# Altium footprint library 研发中心PCB库文件.PcbLib: 333 footprints (part 3 of 21)
Each footprint in its own frame and in the unit in brackets; x right, y up, seen from the top. Pads: shape width x height; smd on the part's side, far side on the other; paste and mask are expansions set on the pad; w line width, h text height; cw(c..) or ccw(c..) is an arc to the next point about the centre after c.
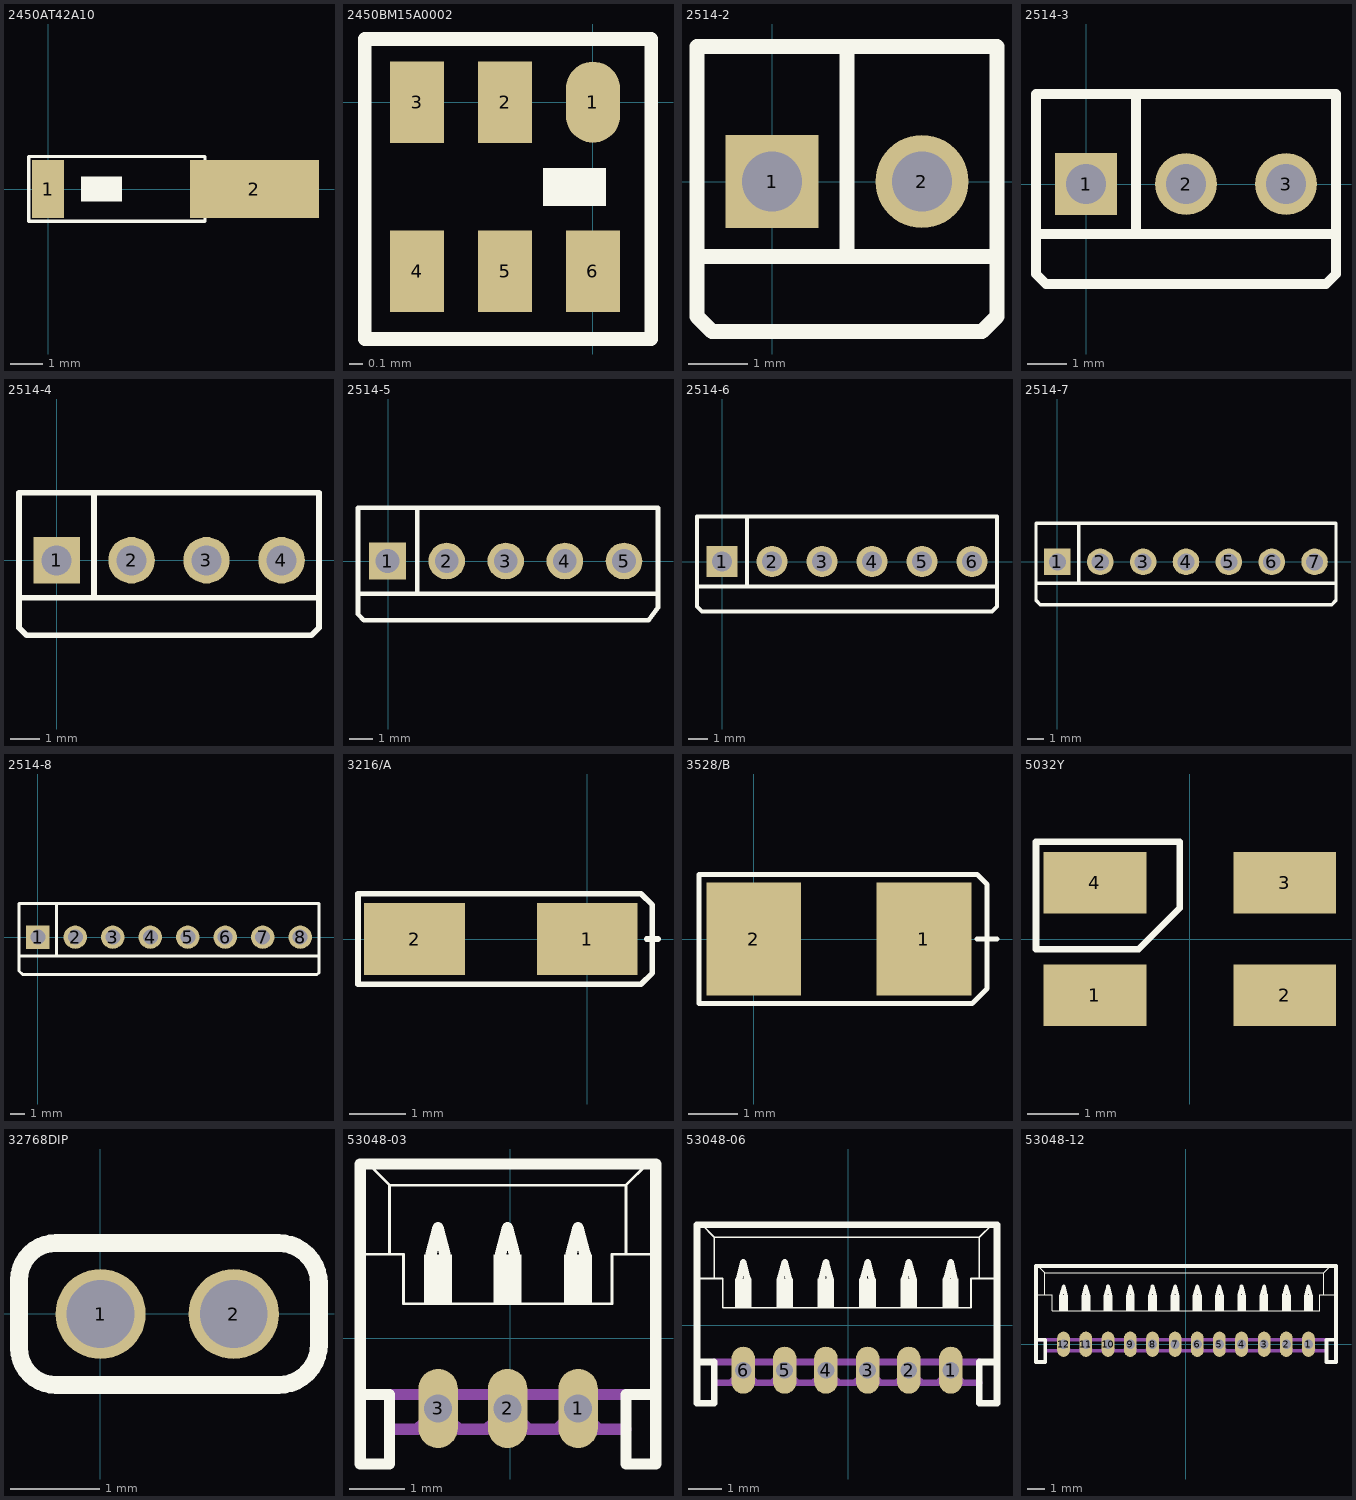
[diagram p2: the footprints below, top view; thin cyan lines are the x and y axes]

## 2450AT42A10 [mm]
pads (2):
  rect 1x1.8 smd: 1(0,0)
  rect 4x1.8 smd: 2(6.4,0)
Top Overlay:
  rectangle: 1.016,-0.381 2.286,0.381
  lines w0.102: -0.602,-1.001 4.869,-1.001 4.869,1.008 -0.602,1.008 -0.602,-1.001

## 2450BM15A0002 [mm]
pads (6):
  oval 0.4x0.6 smd: 1(0,0)
  rect 0.4x0.6 smd: 2(-0.65,0) 3(-1.3,0) 4(-1.3,-1.25) 5(-0.65,-1.25) 6(0,-1.25)
Top Overlay:
  rectangle: -0.368,-0.767 0.098,-0.485
  lines w0.102: -1.686,-1.75 0.43,-1.75 0.43,0.467 -1.686,0.467 -1.686,-1.75

## 2514-2 [mil]
pads (2):
  rect 62x62 hole 40: 1(0,0)
  round 62 hole 40: 2(100,0)
Top Overlay:
  lines w10: 50,-50 50,90 ; -50,-50 -50,90 150,90 150,50 ; -50,-50 -50,-90 -40,-100 140,-100 150,-90 150,-50 ; -50,-50 150,-50 ; -50,-50 150,-50 ; 150,-50 150,50 ; 150,-50 150,50 ; 150,-50 150,50

## 2514-3 [mil]
pads (3):
  rect 62x62 hole 40: 1(0,0)
  round 62 hole 40: 2(100,0) 3(200,0)
Top Overlay:
  lines w10: 50,-50 50,90 ; -50,-50 250,-50 ; -50,-50 -50,90 250,90 250,-50 ; -50,-50 -50,-90 -40,-100 240,-100 250,-90 250,-50

## 2514-4 [mil]
pads (4):
  rect 62x62 hole 40: 1(0,0)
  round 62 hole 40: 2(100,0) 3(200,0) 4(300,0)
Top Overlay:
  lines w7.87: -50,-50 350,-50 ; 50,-50 50,90 ; -50,-90 -40,-100 340,-100 350,-90 350,90 -50,90 -50,-90

## 2514-5 [mil]
pads (5):
  rect 62x62 hole 40: 1(-0.79,0)
  round 62 hole 40: 2(99.21,0) 3(199.21,0) 4(299.21,0) 5(399.21,0)
Top Overlay:
  lines w7.87: 49.21,-50 49.21,90 ; 446.24,-55.12 -50.79,-55.12 456.69,-55 ; 456.69,-78.74 456.69,90 ; 456.69,-78.74 456.69,90 ; 456.69,-78.74 456.69,90 ; 456.69,-78.74 440.94,-100 -40.79,-100 -50.79,-90 -50.79,90 456.69,90

## 2514-6 [mil]
pads (6):
  rect 62x62 hole 40: 1(0,0)
  round 62 hole 40: 2(100,0) 3(200,0) 4(300,0) 5(400,0) 6(500,0)
Top Overlay:
  lines w7.87: -50,-50 550,-50 ; 50,-50 50,90 ; -50,-90 -40,-100 540,-100 550,-90 550,90 -50,90 -50,-90

## 2514-7 [mil]
pads (7):
  rect 62x62 hole 40: 1(0,0)
  round 62 hole 40: 2(100,0) 3(200,0) 4(300,0) 5(400,0) 6(500,0) 7(600,0)
Top Overlay:
  lines w7.87: -50,-50 650,-50 ; 50,-50 50,90 ; -50,-90 -50,90 650,90 650,-90 640,-100 -40,-100 -50,-90

## 2514-8 [mil]
pads (8):
  rect 62x62 hole 40: 1(0,0)
  round 62 hole 40: 2(100,0) 3(200,0) 4(300,0) 5(400,0) 6(500,0) 7(600,0) 8(700,0)
Top Overlay:
  lines w7.87: -50,-50 750,-50 ; 50,-50 50,90 ; -50,-90 -40,-100 745,-100 750,-95 750,90 -50,90 -50,-90

## 3216/A [mm]
pads (2):
  rect 1.78x1.27 smd: 1(0,0) 2(-3.05,0)
Top Overlay:
  lines w0.1: 1.05,0 1.25,0 ; -4.05,-0.8 0.95,-0.8 1.15,-0.6 1.15,0.6 0.95,0.8 0.75,0.8 -4.05,0.8 -4.05,-0.8

## 3528/B [mil]
pads (2):
  rect 75x90 smd: 1(135,0) 2(0,0)
Top Overlay:
  lines w3.94: 100,51.18 177.17,51.18 185.04,43.31 185.04,-39.37 173.23,-51.18 -43.31,-51.18 -43.31,51.18 47.24,51.18 102.36,51.18 ; 177.17,0 192.91,0

## 5032Y [mm]
pads (4):
  rect 2x1.2 smd: 1(-1.85,-1.1) 2(1.85,-1.1) 3(1.85,1.1) 4(-1.85,1.1)
Top Overlay:
  lines w0.127: -0.2,0.6 -0.2,0.6 ; -0.2,0.6 -1,-0.2 -3,-0.2 -3,1.9 -0.2,1.9 -0.2,0.6

## 32768DIP [mil]
pads (2):
  round 40 hole 30: 1(0.16,-0.14) 2(59.21,-0.14)
Top Overlay:
  lines w7.87: -36,-15.16 ccw(c-19.53,-15.16) -19.53,-31.64 78.9,-31.64 ccw(c78.9,-13.54) 97,-13.54 97,13.25 ccw(c78.9,13.25) 78.9,31.35 -19.53,31.35 ccw(c-19.53,14.88) -36,14.88 -36,-15.16

## 53048-03 [mil]
pads (3):
  oval 28x56 hole 20: 1(48.23,-49.76) 2(-1.77,-49.76) 3(-50.98,-49.76)
Top Overlay:
  rectangle: 38.23,24.45 58.23,59.45
  rectangle: -11.61,24.45 8.23,59.45
  rectangle: -60.83,24.45 -41.14,59.45
  lines w2: -105.12,59.45 -85.43,59.45 ; -100.2,123.45 -85.43,108.45 ; 97.23,123.45 82.23,108.45 ; 102.23,59.45 82.23,59.45 ; -85.43,59.45 -85.43,108.45 ; -85.43,59.45 -75.59,59.45 -75.59,24.45 72.23,24.45 72.23,59.45 82.23,59.45 ; -85.43,108.45 82.23,108.45 ; 82.23,59.45 82.23,108.45
  lines w8: -105.12,-39.92 -85.43,-39.92 -85.43,-89.13 -106.1,-89.13 -106.1,123.45 -100.2,123.45 97.23,123.45 103.23,123.45 103.23,-89.13 82.23,-89.13 82.23,-39.92 102.23,-39.92 ; -55.91,59.45 -50.98,78.45 -46.06,59.45 ; -6.69,59.45 -1.77,78.45 3.23,59.45 ; 43.23,59.45 48.23,78.45 53.23,59.45
Mechanical 16:
  rectangle: 38.23,-59.61 58.23,-39.92
  rectangle: -11.61,-59.61 8.23,-39.92
  rectangle: -60.83,-59.61 -41.14,-39.92
  lines w8: -85.43,-64.53 -65.75,-64.53 -60.83,-59.61 ; -85.43,-39.92 82.23,-39.92 ; -41.14,-59.61 -36.22,-64.53 -16.54,-64.53 -11.61,-59.61 ; 8.23,-59.61 13.23,-64.53 33.23,-64.53 38.23,-59.61 ; 58.23,-59.61 62.23,-64.53 82.23,-64.53

## 53048-06 [mil]
pads (6):
  oval 28x56 hole 20: 1(122.03,-53.7) 2(72.03,-53.7) 3(23.03,-53.7) 4(-26.57,-53.7) 5(-75.79,-53.7) 6(-125,-53.7)
Top Overlay:
  rectangle: -134.84,20.51 -115.16,55.51
  rectangle: -85.63,20.51 -65.94,55.51
  rectangle: -36.42,20.51 -16.73,55.51
  rectangle: 13.03,20.51 33.03,55.51
  rectangle: 62.03,20.51 82.03,55.51
  rectangle: 112.03,20.51 131.03,55.51
  lines w2: -179.13,55.51 -159.45,55.51 ; -174.21,119.51 -159.45,104.51 ; 171.03,119.51 156.03,104.51 ; 176.03,55.51 156.03,55.51 ; -159.45,55.51 -149.61,55.51 -149.61,20.51 146.03,20.51 146.03,55.51 156.03,55.51 ; -159.45,55.51 -159.45,104.51 ; -159.45,104.51 156.03,104.51 ; 156.03,55.51 156.03,104.51
  lines w8: -179.13,-43.86 -159.45,-43.86 -159.45,-93.07 -180.12,-93.07 -180.12,119.51 -174.21,119.51 171.03,119.51 177.03,119.51 177.03,-93.07 156.03,-93.07 156.03,-43.86 176.03,-43.86 ; -129.92,55.51 -125,74.51 -120.08,55.51 ; -80.71,55.51 -75.79,74.51 -70.87,55.51 ; -31.5,55.51 -26.57,74.51 -21.65,55.51 ; 18.03,55.51 23.03,74.51 28.03,55.51 ; 67.03,55.51 72.03,74.51 77.03,55.51 ; 117.03,55.51 122.03,74.51 126.03,55.51
Mechanical 16:
  rectangle: -134.84,-63.54 -115.16,-43.86
  rectangle: -85.63,-63.54 -65.94,-43.86
  rectangle: -36.42,-63.54 -16.73,-43.86
  rectangle: 13.03,-63.54 33.03,-43.86
  rectangle: 62.03,-63.54 82.03,-43.86
  rectangle: 112.03,-63.54 131.03,-43.86
  lines w8: -159.45,-68.46 -139.76,-68.46 -134.84,-63.54 ; -159.45,-43.86 156.03,-43.86 ; -115.16,-63.54 -110.24,-68.46 -90.55,-68.46 -85.63,-63.54 ; -65.94,-63.54 -61.02,-68.46 -41.34,-68.46 -36.42,-63.54 ; -16.73,-63.54 -11.81,-68.46 8.03,-68.46 13.03,-63.54 ; 33.03,-63.54 38.03,-68.46 58.03,-68.46 62.03,-63.54 ; 82.03,-63.54 87.03,-68.46 107.03,-68.46 112.03,-63.54 ; 131.03,-63.54 136.03,-68.46 156.03,-68.46

## 53048-12 [mil] "1.25"
pads (12):
  oval 28x56 hole 20: 1(270.93,0) 2(221.93,0) 3(172.93,0) 4(122.93,0) 5(73.93,0) 6(24.93,0) 7(-24.07,0) 8(-74.07,0) 9(-123.29,0) 10(-172.5,0) 11(-221.71,0) 12(-270.93,0)
Top Overlay:
  rectangle: -280.77,74.21 -261.08,109.21
  rectangle: -231.56,74.21 -211.87,109.21
  rectangle: -182.34,74.21 -162.66,109.21
  rectangle: -133.13,74.21 -113.44,109.21
  rectangle: -83.92,74.21 -64.07,109.21
  rectangle: -34.07,74.21 -14.07,109.21
  rectangle: 14.93,74.21 34.93,109.21
  rectangle: 63.93,74.21 83.93,109.21
  rectangle: 113.93,74.21 132.93,109.21
  rectangle: 162.93,74.21 181.93,109.21
  rectangle: 211.93,74.21 231.93,109.21
  rectangle: 260.93,74.21 280.93,109.21
  lines w2: -329.07,109.21 -296.07,109.21 -296.07,74.21 295.93,74.21 295.93,109.21 304.93,109.21 ; -313.07,158.21 304.93,158.21 ; 319.93,173.21 304.93,158.21 ; 329.93,109.21 304.93,109.21 ; 304.93,109.21 304.93,158.21
  lines w2.01: -329.07,173.21 -328.07,173.21 -313.07,158.21 -313.07,111
  lines w8: -331.95,-39.37 -331.95,173.21 ; -329.07,-39.37 -311.07,-39.37 -311.07,9.84 -328.07,9.84 ; -329.07,173.21 319.93,173.21 331.95,173.21 331.95,-39.37 310.93,-39.37 310.93,9.84 329.93,9.84 ; -275.85,109.21 -270.93,128.21 -266,109.21 ; -226.63,109.21 -221.71,128.21 -216.79,109.21 ; -177.42,109.21 -172.5,128.21 -167.58,109.21 ; -128.21,109.21 -123.29,128.21 -118.37,109.21 ; -79,109.21 -74.07,128.21 -69.07,109.21 ; -29.07,109.21 -24.07,128.21 -19.07,109.21 ; 19.93,109.21 24.93,128.21 29.93,109.21 ; 68.93,109.21 73.93,128.21 78.93,109.21 ; 117.93,109.21 122.93,128.21 127.93,109.21 ; 167.93,109.21 172.93,128.21 176.93,109.21 ; 216.93,109.21 221.93,128.21 226.93,109.21 ; 265.93,109.21 270.93,128.21 275.93,109.21
Mechanical 16:
  rectangle: -280.77,-9.84 -261.08,9.84
  rectangle: -231.56,-9.84 -211.87,9.84
  rectangle: -182.34,-9.84 -162.66,9.84
  rectangle: -133.13,-9.84 -113.44,9.84
  rectangle: -83.92,-9.84 -64.07,9.84
  rectangle: -34.07,-9.84 -14.07,9.84
  rectangle: 14.93,-9.84 34.93,9.84
  rectangle: 63.93,-9.84 83.93,9.84
  rectangle: 113.93,-9.84 132.93,9.84
  rectangle: 162.93,-9.84 181.93,9.84
  rectangle: 211.93,-9.84 231.93,9.84
  rectangle: 260.93,-9.84 280.93,9.84
  lines w8: -328.07,9.84 313.93,9.84 ; -305.37,-14.76 -285.69,-14.76 -280.77,-9.84 ; -261.08,-9.84 -256.16,-14.76 -236.48,-14.76 -231.56,-9.84 ; -211.87,-9.84 -206.95,-14.76 -187.26,-14.76 -182.34,-9.84 ; -162.66,-9.84 -157.74,-14.76 -138.05,-14.76 -133.13,-9.84 ; -113.44,-9.84 -108.52,-14.76 -88.84,-14.76 -83.92,-9.84 ; -64.07,-9.84 -59.07,-14.76 -39.07,-14.76 -34.07,-9.84 ; -14.07,-9.84 -10.07,-14.76 9.93,-14.76 14.93,-9.84 ; 34.93,-9.84 39.93,-14.76 58.93,-14.76 63.93,-9.84 ; 83.93,-9.84 88.93,-14.76 108.93,-14.76 113.93,-9.84 ; 132.93,-9.84 137.93,-14.76 157.93,-14.76 162.93,-9.84 ; 181.93,-9.84 186.93,-14.76 206.93,-14.76 211.93,-9.84 ; 231.93,-9.84 236.93,-14.76 255.93,-14.76 260.93,-9.84 ; 280.93,-9.84 285.93,-14.76 308.93,-14.76